# Altium footprint library 87437-0243.PcbLib: 1 footprints
Each footprint in its own frame and in the unit in brackets; x right, y up, seen from the top. Pads: shape width x height; smd on the part's side, far side on the other; paste and mask are expansions set on the pad; w line width, h text height; cw(c..) or ccw(c..) is an arc to the next point about the centre after c.
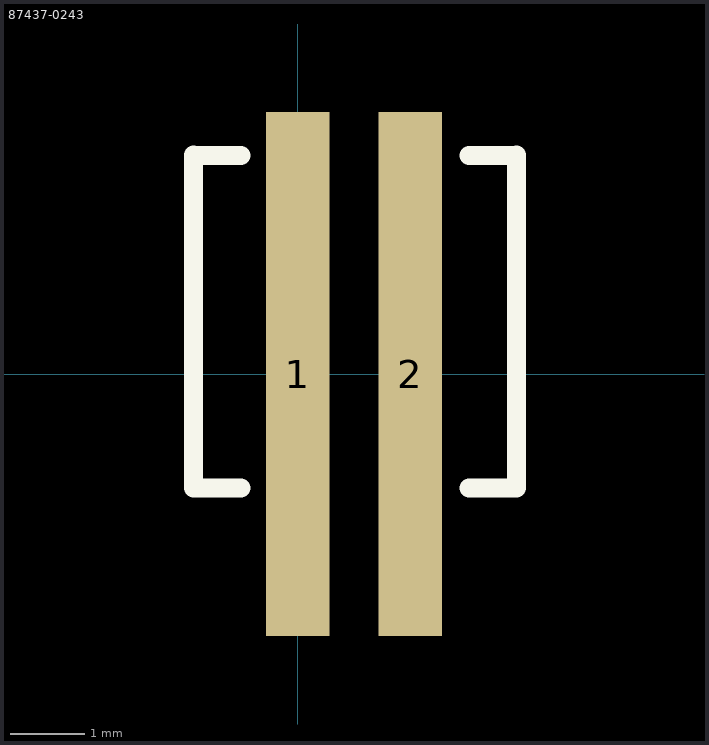
[diagram p0: the footprint, top view; thin cyan lines are the x and y axes]

## 87437-0243 [mm] "2 pos 1.5mm vertical surface mount header"
height 8
pads (2):
  rect 0.85x7 smd: 1(0,0) 2(1.5,0)
Top Overlay:
  lines w0.254: -1.397,2.921 -0.762,2.921 ; -1.397,2.926 -1.397,-1.524 -0.762,-1.524 ; 2.286,-1.524 2.921,-1.524 2.921,2.926 ; 2.286,2.921 2.921,2.921
3D body: height 8, standoff 0, extent -1.524,-3.602 3.048,3.602